# Altium schematic symbol library NCP606.SchLib: 1 symbol
Pins are listed as number, name and electrical type; pins without a type are passive.

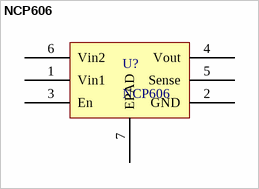
[diagram p0: symbol NCP606]

## NCP606
designator U?
pins: 1 Vin1, 2 GND, 3 En, 4 Vout, 5 Sense, 6 Vin2, 7 EPAD